# EAGLE library part IRF7317 (library led-stuff)
Dual N and P Channel HEXFET® Power MOSFET Generation V Technology Ultra Low On-Resistance Dual N and P Channel MOSFET Surface Mount Fully Avalanche Rated Max VGS 12V Max ID N-Ch: 6.6A P-Ch: -5.3A RDS(ON) N-Ch: VGS 4.5V = 0.023Ω, 2.7V = 0.030Ω P-Ch: VGS -4.5V = 0.049Ω, -2.7V = 0.098Ω
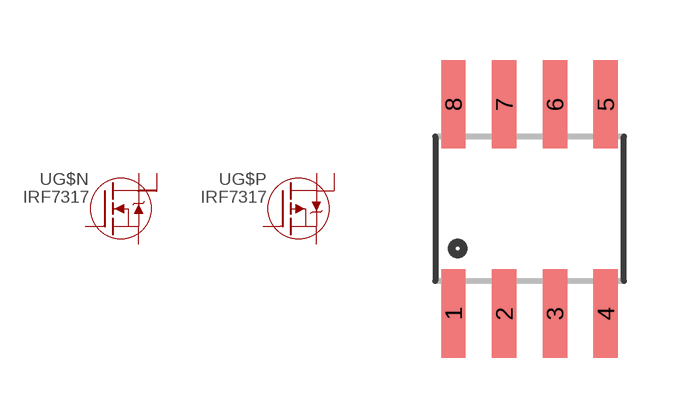
[diagram p7: symbol with the pads of SO08; footprint SO08]

Designator prefix -; gates G$N=N-MOSFET-SO8-DUAL G$P=P-MOSFET-SO8-DUAL

## IRF7317  [SO08]
1  G$N:S
2  G$N:G
3  G$P:S
4  G$P:G
5  G$P:D
6  G$P:D
7  G$N:D
8  G$N:D

## Footprint SO08 (pad centres in mm)
Small Outline Package Fits JEDEC packages (narrow SOIC-8)
smd 0.61 x 2.21: 1 -1.905,-2.616; 2 -0.635,-2.616; 3 0.635,-2.616; 4 1.905,-2.616; 5 1.905,2.616; 6 0.635,2.616; 7 -0.635,2.616; 8 -1.905,2.616